# Altium integrated library TI Data Converters Digital to Analog Converter.IntLib: 1533 symbols (part 81 of 99)
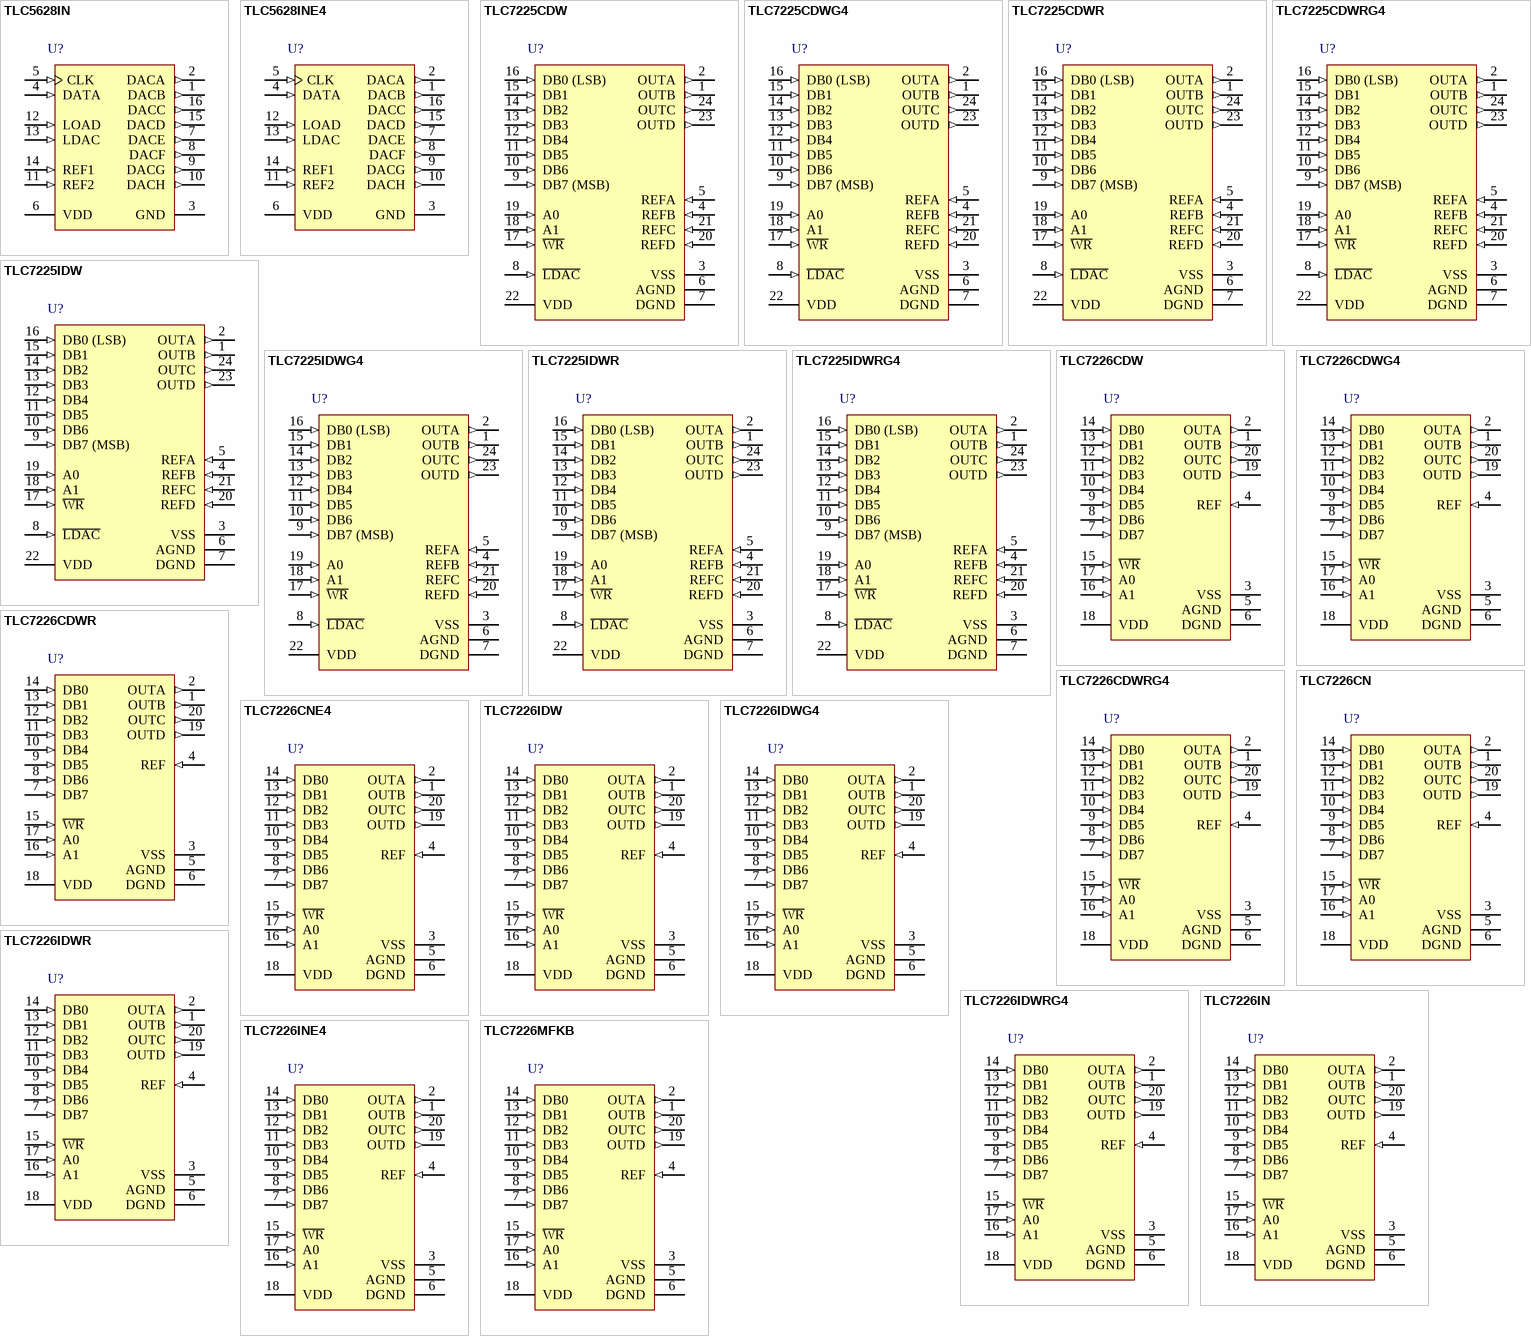
[diagram p153: symbols TLC5628IN to TLC7226MFKB]

## TLC7226MFKB
designator U?
8-Bit, 5 us Quad DAC, Parallel Input, Single / Dual Supply, -55 to 125 degC, 20-pin LCC (FK20); Manufacturer: Texas Instruments; PartNumber: TLC7226MFKB; DAC Channels: 4; DNL(Max)(+/-LSB): 1; Power Consumption(Typ)(mW): 90; Resolution(Bits): 8; Settling Time(us): 5; SubFamily: Precision DAC (=<10MSPS); DatasheetVersion: SLAS060F; PackageVersion: 4040140/D, 01/2011; PackageReference: FK20; PackageDescription: 20-Pin Ceramic, Metal Chip Carrier, Body 8.89 x 8.89 mm, Pitch 1.27 mm; INL(Max)(+/-LSB): 1; Interface: Parallel; Mounting Technology: Surface Mount; Code_JEDEC: MS-004; ComponentLink1Description: Manufacturer URL; ComponentLink1URL: http://www.ti.com/; ComponentLink2Description: Datasheet; ComponentLink2URL: http://www.ti.com/general/docs/lit/getliterature.tsp?genericPartNumber=TLC7226M&fileType=pdf; ComponentLink3Description: Package Specification; ComponentLink3URL: http://www.ti.com/litv/pdf/mlcc006d
footprint TI-FK20_N (Leadless Chip Carrier, 20-Leads, Body 8.9x8.9mm, Pitch 1.27mm, IPC Medium Density)
footprint TI-FK20_L (Leadless Chip Carrier, 20-Leads, Body 8.9x8.9mm, Pitch 1.27mm, IPC High Density)
footprint TI-FK20_M (Leadless Chip Carrier, 20-Leads, Body 8.9x8.9mm, Pitch 1.27mm, IPC Low Density)
pins: 1 OUTB (out) "DACB output. OUTB is the analog output of DACB.", 2 OUTA (out) "DACA output. OUTA is the analog output of DACA.", 3 VSS (power) "Negative supply voltage input terminal", 4 REF (in) "Voltage reference input. The voltage level on REF determines the full scale analog output.", 5 AGND (power) "Analog ground. AGND is the reference and return terminal for the analog signals and supply.", 6 DGND (power) "Digital ground. DGND is the reference and return terminal for the digital signals and supply.", 7 DB7 (in) "Digital DAC data inputs. DB0-DB7 are the input digital data used for conversion.", 8 DB6 (in) "Digital DAC data inputs. DB0-DB7 are the input digital data used for conversion.", 9 DB5 (in) "Digital DAC data inputs. DB0-DB7 are the input digital data used for conversion.", 10 DB4 (in) "Digital DAC data inputs. DB0-DB7 are the input digital data used for conversion.", 11 DB3 (in) "Digital DAC data inputs. DB0-DB7 are the input digital data used for conversion.", 12 DB2 (in) "Digital DAC data inputs. DB0-DB7 are the input digital data used for conversion.", 13 DB1 (in) "Digital DAC data inputs. DB0-DB7 are the input digital data used for conversion.", 14 DB0 (in) "Digital DAC data inputs. DB0-DB7 are the input digital data used for conversion.", 15 ~{WR} (in) "Write input. W\R\ selects DAC transparency or latch mode. The selected input latch is transparent when W\R\ is low.", 16 A1 (in) "DAC select inputs. The combination of high or low levels select either DACA, DACB, DACC, or DACD.", 17 A0 (in) "DAC select inputs. The combination of high or low levels select either DACA, DACB, DACC, or DACD.", 18 VDD (power) "Positive supply voltage input terminal", 19 OUTD (out) "DACD output. OUTD is the analog output of DACD.", 20 OUTC (out) "DACC output. OUTC is the analog output of DACC."

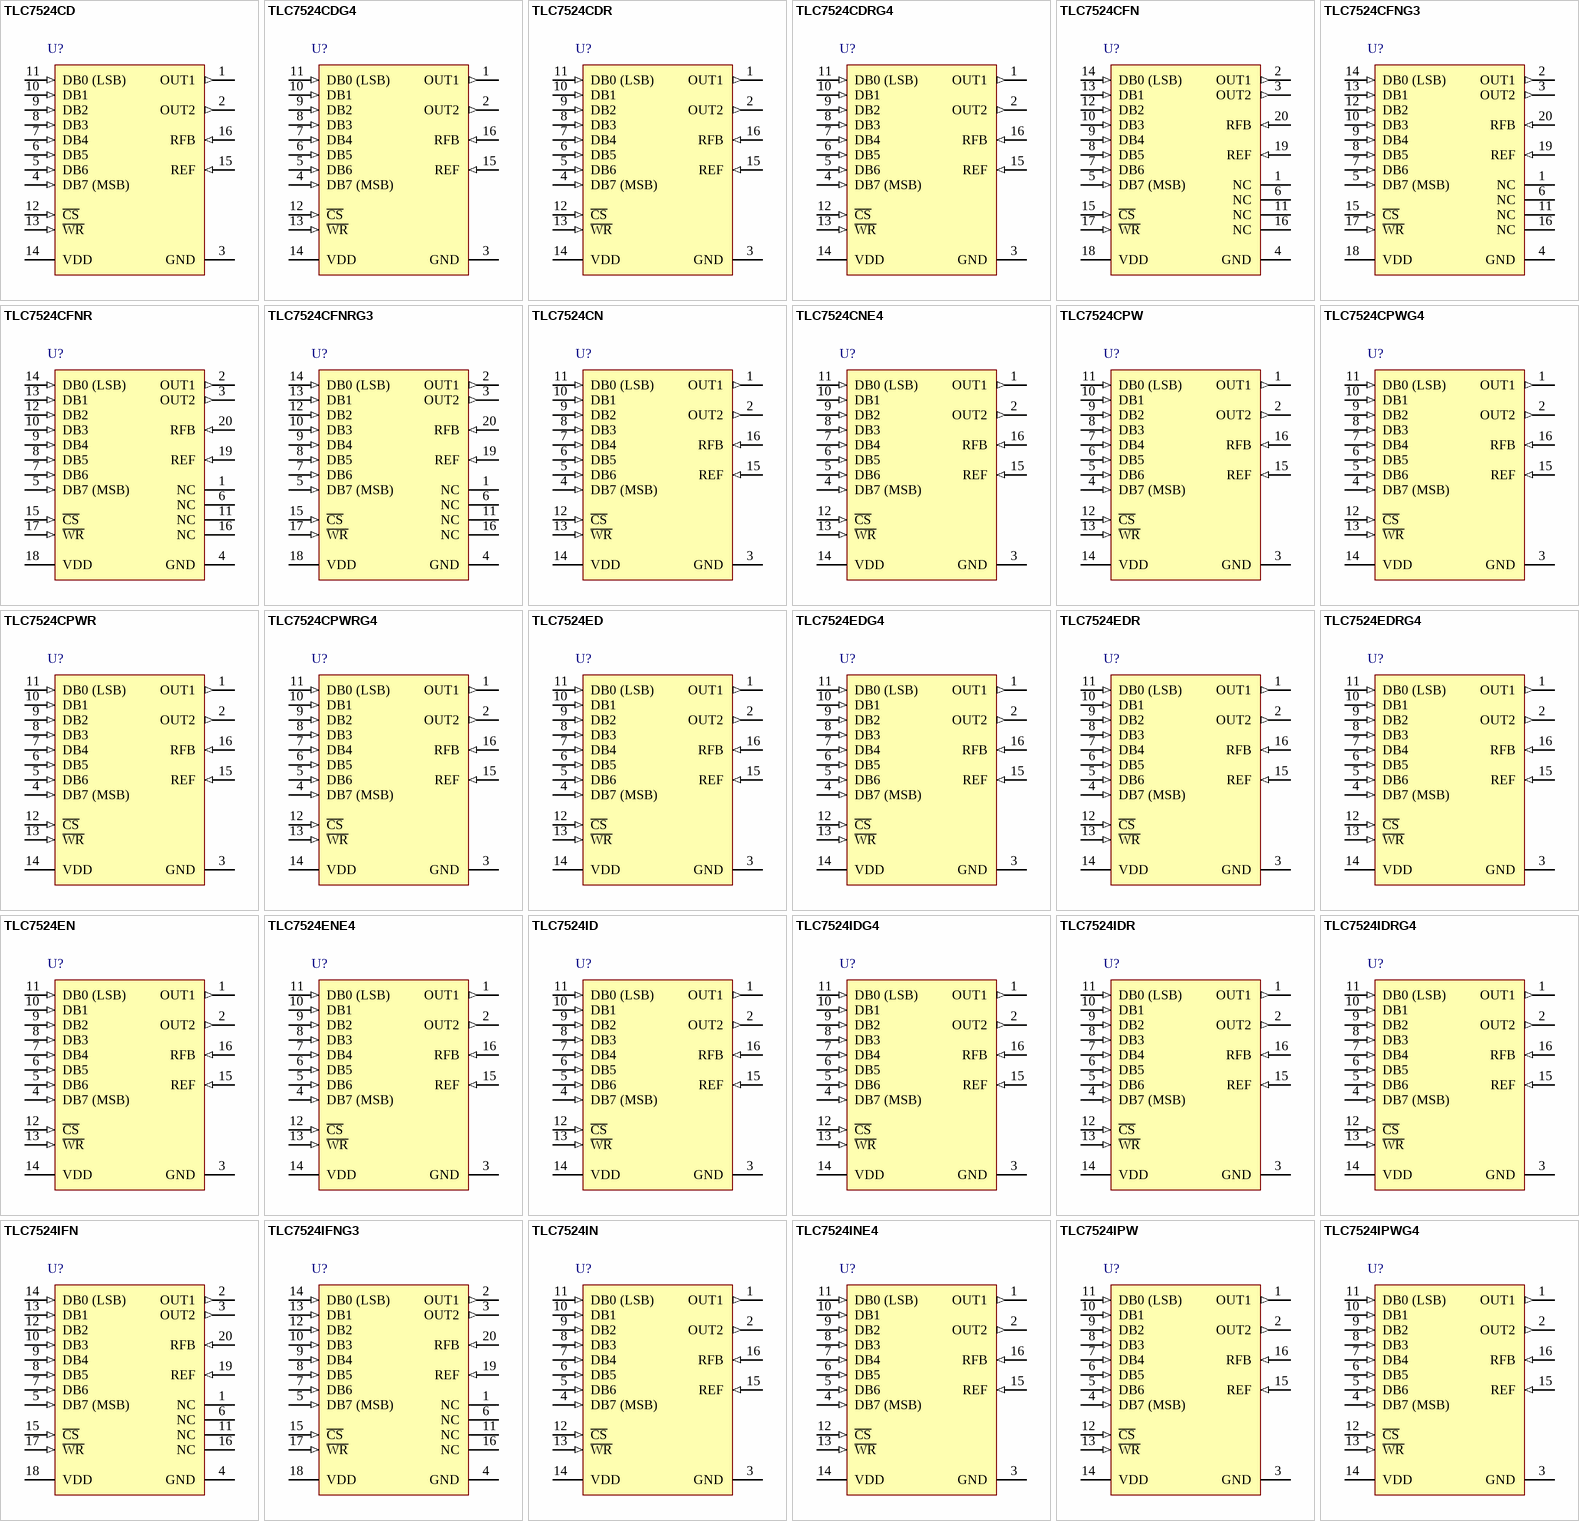
[diagram p60: symbols TLC7524CD to TLC7524IPWG4]

## TLC7524CD
designator U?
8-Bit, 0.1 us MDAC, Parallel Input, Fast Control Signalling for DSP, Easy Micro Interface, 0 to 70 degC, 16-pin SOIC (D16), Green (RoHS & no Sb/Br); Manufacturer: Texas Instruments; PartNumber: TLC7524CD; DAC Channels: 1; DNL(Max)(+/-LSB): 0.5; Resolution(Bits): 8; Settling Time(us): 0.1; SubFamily: Precision DAC (=<10MSPS); DatasheetVersion: SLAS061D; PackageVersion: 4040047-6/M, 06/2011; PackageReference: D16; PackageDescription: 16-Pin Plastic Small Outline, Body 9.9 x 3.9 mm, Pitch 1.27 mm; Supplier 1: Digi-Key; Supplier Part Number 1: 296-1866-5-ND; Supplier 2: Farnell; Supplier Part Number 2: 1102951; Supplier 3: Mouser; Supplier Part Number 3: 595-TLC7524CD; Eco-Plan: Green (RoHS & no Sb/Br); INL(Max)(+/-LSB): 0.5; Interface: Parallel; Mounting Technology: Surface Mount; Code_JEDEC: MS-012; ComponentLink1Description: Manufacturer URL; ComponentLink1URL: http://www.ti.com/; ComponentLink2Description: Datasheet; ComponentLink2URL: http://www.ti.com/general/docs/lit/getliterature.tsp?genericPartNumber=TLC7524&fileType=pdf; ComponentLink3Description: Package Specification; ComponentLink3URL: http://www.ti.com/litv/pdf/mpds178g
footprint TI-D16_N (SOIC, 16-Leads, Body 9.9x3.9mm, Pitch 1.27mm, IPC Medium Density)
footprint TI-D16_L (SOIC, 16-Leads, Body 9.9x3.9mm, Pitch 1.27mm, IPC High Density)
footprint TI-D16_M (SOIC, 16-Leads, Body 9.9x3.9mm, Pitch 1.27mm, IPC Low Density)
pins: 1 OUT1 (out), 2 OUT2 (out), 3 GND (power), 4 DB7 (MSB) (in), 5 DB6 (in), 6 DB5 (in), 7 DB4 (in), 8 DB3 (in), 9 DB2 (in), 10 DB1 (in), 11 DB0 (LSB) (in), 12 ~{CS} (in), 13 ~{WR} (in), 14 VDD (power), 15 REF (in), 16 RFB (in)

## TLC7524CDG4
designator U?
8-Bit, 0.1 us MDAC, Parallel Input, Fast Control Signalling for DSP, Easy Micro Interface, 0 to 70 degC, 16-pin SOIC (D16), Green (RoHS & no Sb/Br); Manufacturer: Texas Instruments; PartNumber: TLC7524CDG4; DAC Channels: 1; DNL(Max)(+/-LSB): 0.5; Resolution(Bits): 8; Settling Time(us): 0.1; SubFamily: Precision DAC (=<10MSPS); DatasheetVersion: SLAS061D; PackageVersion: 4040047-6/M, 06/2011; PackageReference: D16; PackageDescription: 16-Pin Plastic Small Outline, Body 9.9 x 3.9 mm, Pitch 1.27 mm; Supplier 1: Digi-Key; Supplier Part Number 1: TLC7524CDG4-ND; Supplier 2: Newark; Supplier Part Number 2: 10M0582; Supplier 3: Mouser; Supplier Part Number 3: 595-TLC7524CDG4; Eco-Plan: Green (RoHS & no Sb/Br); INL(Max)(+/-LSB): 0.5; Interface: Parallel; Mounting Technology: Surface Mount; Code_JEDEC: MS-012; ComponentLink1Description: Manufacturer URL; ComponentLink1URL: http://www.ti.com/; ComponentLink2Description: Datasheet; ComponentLink2URL: http://www.ti.com/general/docs/lit/getliterature.tsp?genericPartNumber=TLC7524&fileType=pdf; ComponentLink3Description: Package Specification; ComponentLink3URL: http://www.ti.com/litv/pdf/mpds178g
footprint TI-D16_N (SOIC, 16-Leads, Body 9.9x3.9mm, Pitch 1.27mm, IPC Medium Density)
footprint TI-D16_L (SOIC, 16-Leads, Body 9.9x3.9mm, Pitch 1.27mm, IPC High Density)
footprint TI-D16_M (SOIC, 16-Leads, Body 9.9x3.9mm, Pitch 1.27mm, IPC Low Density)
pins: 1 OUT1 (out), 2 OUT2 (out), 3 GND (power), 4 DB7 (MSB) (in), 5 DB6 (in), 6 DB5 (in), 7 DB4 (in), 8 DB3 (in), 9 DB2 (in), 10 DB1 (in), 11 DB0 (LSB) (in), 12 ~{CS} (in), 13 ~{WR} (in), 14 VDD (power), 15 REF (in), 16 RFB (in)

## TLC7524CDR
designator U?
8-Bit, 0.1 us MDAC, Parallel Input, Fast Control Signalling for DSP, Easy Micro Interface, 0 to 70 degC, 16-pin SOIC (D16), Green (RoHS & no Sb/Br); Manufacturer: Texas Instruments; PartNumber: TLC7524CDR; DAC Channels: 1; DNL(Max)(+/-LSB): 0.5; Resolution(Bits): 8; Settling Time(us): 0.1; SubFamily: Precision DAC (=<10MSPS); DatasheetVersion: SLAS061D; PackageVersion: 4040047-6/M, 06/2011; PackageReference: D16; PackageDescription: 16-Pin Plastic Small Outline, Body 9.9 x 3.9 mm, Pitch 1.27 mm; Supplier 1: Digi-Key; Supplier Part Number 1: TLC7524CDR-ND; Supplier 2: Newark; Supplier Part Number 2: 76C7493; Supplier 3: Mouser; Supplier Part Number 3: 595-TLC7524CDR; Eco-Plan: Green (RoHS & no Sb/Br); INL(Max)(+/-LSB): 0.5; Interface: Parallel; Mounting Technology: Surface Mount; Code_JEDEC: MS-012; ComponentLink1Description: Manufacturer URL; ComponentLink1URL: http://www.ti.com/; ComponentLink2Description: Datasheet; ComponentLink2URL: http://www.ti.com/general/docs/lit/getliterature.tsp?genericPartNumber=TLC7524&fileType=pdf; ComponentLink3Description: Package Specification; ComponentLink3URL: http://www.ti.com/litv/pdf/mpds178g
footprint TI-D16_N (SOIC, 16-Leads, Body 9.9x3.9mm, Pitch 1.27mm, IPC Medium Density)
footprint TI-D16_L (SOIC, 16-Leads, Body 9.9x3.9mm, Pitch 1.27mm, IPC High Density)
footprint TI-D16_M (SOIC, 16-Leads, Body 9.9x3.9mm, Pitch 1.27mm, IPC Low Density)
pins: 1 OUT1 (out), 2 OUT2 (out), 3 GND (power), 4 DB7 (MSB) (in), 5 DB6 (in), 6 DB5 (in), 7 DB4 (in), 8 DB3 (in), 9 DB2 (in), 10 DB1 (in), 11 DB0 (LSB) (in), 12 ~{CS} (in), 13 ~{WR} (in), 14 VDD (power), 15 REF (in), 16 RFB (in)

## TLC7524CDRG4
designator U?
8-Bit, 0.1 us MDAC, Parallel Input, Fast Control Signalling for DSP, Easy Micro Interface, 0 to 70 degC, 16-pin SOIC (D16), Green (RoHS & no Sb/Br); Manufacturer: Texas Instruments; PartNumber: TLC7524CDRG4; DAC Channels: 1; DNL(Max)(+/-LSB): 0.5; Resolution(Bits): 8; Settling Time(us): 0.1; SubFamily: Precision DAC (=<10MSPS); DatasheetVersion: SLAS061D; PackageVersion: 4040047-6/M, 06/2011; PackageReference: D16; PackageDescription: 16-Pin Plastic Small Outline, Body 9.9 x 3.9 mm, Pitch 1.27 mm; Supplier 1: Digi-Key; Supplier Part Number 1: TLC7524CDRG4-ND; Supplier 2: Newark; Supplier Part Number 2: 24K5348; Supplier 3: Mouser; Supplier Part Number 3: 595-TLC7524CDRG4; Eco-Plan: Green (RoHS & no Sb/Br); INL(Max)(+/-LSB): 0.5; Interface: Parallel; Mounting Technology: Surface Mount; Code_JEDEC: MS-012; ComponentLink1Description: Manufacturer URL; ComponentLink1URL: http://www.ti.com/; ComponentLink2Description: Datasheet; ComponentLink2URL: http://www.ti.com/general/docs/lit/getliterature.tsp?genericPartNumber=TLC7524&fileType=pdf; ComponentLink3Description: Package Specification; ComponentLink3URL: http://www.ti.com/litv/pdf/mpds178g
footprint TI-D16_N (SOIC, 16-Leads, Body 9.9x3.9mm, Pitch 1.27mm, IPC Medium Density)
footprint TI-D16_L (SOIC, 16-Leads, Body 9.9x3.9mm, Pitch 1.27mm, IPC High Density)
footprint TI-D16_M (SOIC, 16-Leads, Body 9.9x3.9mm, Pitch 1.27mm, IPC Low Density)
pins: 1 OUT1 (out), 2 OUT2 (out), 3 GND (power), 4 DB7 (MSB) (in), 5 DB6 (in), 6 DB5 (in), 7 DB4 (in), 8 DB3 (in), 9 DB2 (in), 10 DB1 (in), 11 DB0 (LSB) (in), 12 ~{CS} (in), 13 ~{WR} (in), 14 VDD (power), 15 REF (in), 16 RFB (in)

## TLC7524CFN
designator U?
8-Bit, 0.1 us MDAC, Parallel Input, Fast Control Signalling for DSP, Easy Micro Interface, 0 to 70 degC, 20-pin PLCC (FN20), Green (RoHS & no Sb/Br); Manufacturer: Texas Instruments; PartNumber: TLC7524CFN; DAC Channels: 1; DNL(Max)(+/-LSB): 0.5; Resolution(Bits): 8; Settling Time(us): 0.1; SubFamily: Precision DAC (=<10MSPS); DatasheetVersion: SLAS061D; PackageVersion: 4040005/B, 03/1995; PackageReference: FN20; PackageDescription: 20-Pin Plastic Chip Carrier, Body 8.965 x 8.965 mm, Pitch 1.27 mm; Supplier 1: Digi-Key; Supplier Part Number 1: 296-1867-5-ND; Supplier 2: Mouser; Supplier Part Number 2: 595-TLC7524CFN; Eco-Plan: Green (RoHS & no Sb/Br); INL(Max)(+/-LSB): 0.5; Interface: Parallel; Mounting Technology: Surface Mount; Code_JEDEC: MS-018; ComponentLink1Description: Manufacturer URL; ComponentLink1URL: http://www.ti.com/; ComponentLink2Description: Datasheet; ComponentLink2URL: http://www.ti.com/general/docs/lit/getliterature.tsp?genericPartNumber=TLC7524&fileType=pdf; ComponentLink3Description: Package Specification; ComponentLink3URL: http://www.ti.com/litv/pdf/mplc004a
footprint TI-FN20_N (PLCC, 20-Leads, Body 8.965x8.965mm, Pitch 1.27mm, IPC Medium Density)
footprint TI-FN20_L (PLCC, 20-Leads, Body 8.965x8.965mm, Pitch 1.27mm, IPC High Density)
footprint TI-FN20_M (PLCC, 20-Leads, Body 8.965x8.965mm, Pitch 1.27mm, IPC Low Density)
pins: 1 NC, 2 OUT1 (out), 3 OUT2 (out), 4 GND (power), 5 DB7 (MSB) (in), 6 NC, 7 DB6 (in), 8 DB5 (in), 9 DB4 (in), 10 DB3 (in), 11 NC, 12 DB2 (in), 13 DB1 (in), 14 DB0 (LSB) (in), 15 ~{CS} (in), 16 NC, 17 ~{WR} (in), 18 VDD (power), 19 REF (in), 20 RFB (in)

## TLC7524CFNG3
designator U?
8-Bit, 0.1 us MDAC, Parallel Input, Fast Control Signalling for DSP, Easy Micro Interface, 0 to 70 degC, 20-pin PLCC (FN20), Green (RoHS & no Sb/Br); Manufacturer: Texas Instruments; PartNumber: TLC7524CFNG3; DAC Channels: 1; DNL(Max)(+/-LSB): 0.5; Resolution(Bits): 8; Settling Time(us): 0.1; SubFamily: Precision DAC (=<10MSPS); DatasheetVersion: SLAS061D; PackageVersion: 4040005/B, 03/1995; PackageReference: FN20; PackageDescription: 20-Pin Plastic Chip Carrier, Body 8.965 x 8.965 mm, Pitch 1.27 mm; Supplier 1: Digi-Key; Supplier Part Number 1: TLC7524CFNG3-ND; Supplier 2: Mouser; Supplier Part Number 2: 595-TLC7524CFNG3; Eco-Plan: Green (RoHS & no Sb/Br); INL(Max)(+/-LSB): 0.5; Interface: Parallel; Mounting Technology: Surface Mount; Code_JEDEC: MS-018; ComponentLink1Description: Manufacturer URL; ComponentLink1URL: http://www.ti.com/; ComponentLink2Description: Datasheet; ComponentLink2URL: http://www.ti.com/general/docs/lit/getliterature.tsp?genericPartNumber=TLC7524&fileType=pdf; ComponentLink3Description: Package Specification; ComponentLink3URL: http://www.ti.com/litv/pdf/mplc004a
footprint TI-FN20_N (PLCC, 20-Leads, Body 8.965x8.965mm, Pitch 1.27mm, IPC Medium Density)
footprint TI-FN20_L (PLCC, 20-Leads, Body 8.965x8.965mm, Pitch 1.27mm, IPC High Density)
footprint TI-FN20_M (PLCC, 20-Leads, Body 8.965x8.965mm, Pitch 1.27mm, IPC Low Density)
pins: 1 NC, 2 OUT1 (out), 3 OUT2 (out), 4 GND (power), 5 DB7 (MSB) (in), 6 NC, 7 DB6 (in), 8 DB5 (in), 9 DB4 (in), 10 DB3 (in), 11 NC, 12 DB2 (in), 13 DB1 (in), 14 DB0 (LSB) (in), 15 ~{CS} (in), 16 NC, 17 ~{WR} (in), 18 VDD (power), 19 REF (in), 20 RFB (in)

## TLC7524CFNR
designator U?
8-Bit, 0.1 us MDAC, Parallel Input, Fast Control Signalling for DSP, Easy Micro Interface, 0 to 70 degC, 20-pin PLCC (FN20), Green (RoHS & no Sb/Br); Manufacturer: Texas Instruments; PartNumber: TLC7524CFNR; DAC Channels: 1; DNL(Max)(+/-LSB): 0.5; Resolution(Bits): 8; Settling Time(us): 0.1; SubFamily: Precision DAC (=<10MSPS); DatasheetVersion: SLAS061D; PackageVersion: 4040005/B, 03/1995; PackageReference: FN20; PackageDescription: 20-Pin Plastic Chip Carrier, Body 8.965 x 8.965 mm, Pitch 1.27 mm; Supplier 1: Digi-Key; Supplier Part Number 1: TLC7524CFNR-ND; Supplier 2: Newark; Supplier Part Number 2: 76C7495; Supplier 3: Mouser; Supplier Part Number 3: 595-TLC7524CFNR; Eco-Plan: Green (RoHS & no Sb/Br); INL(Max)(+/-LSB): 0.5; Interface: Parallel; Mounting Technology: Surface Mount; Code_JEDEC: MS-018; ComponentLink1Description: Manufacturer URL; ComponentLink1URL: http://www.ti.com/; ComponentLink2Description: Datasheet; ComponentLink2URL: http://www.ti.com/general/docs/lit/getliterature.tsp?genericPartNumber=TLC7524&fileType=pdf; ComponentLink3Description: Package Specification; ComponentLink3URL: http://www.ti.com/litv/pdf/mplc004a
footprint TI-FN20_N (PLCC, 20-Leads, Body 8.965x8.965mm, Pitch 1.27mm, IPC Medium Density)
footprint TI-FN20_L (PLCC, 20-Leads, Body 8.965x8.965mm, Pitch 1.27mm, IPC High Density)
footprint TI-FN20_M (PLCC, 20-Leads, Body 8.965x8.965mm, Pitch 1.27mm, IPC Low Density)
pins: 1 NC, 2 OUT1 (out), 3 OUT2 (out), 4 GND (power), 5 DB7 (MSB) (in), 6 NC, 7 DB6 (in), 8 DB5 (in), 9 DB4 (in), 10 DB3 (in), 11 NC, 12 DB2 (in), 13 DB1 (in), 14 DB0 (LSB) (in), 15 ~{CS} (in), 16 NC, 17 ~{WR} (in), 18 VDD (power), 19 REF (in), 20 RFB (in)

## TLC7524CFNRG3
designator U?
8-Bit, 0.1 us MDAC, Parallel Input, Fast Control Signalling for DSP, Easy Micro Interface, 0 to 70 degC, 20-pin PLCC (FN20), Green (RoHS & no Sb/Br); Manufacturer: Texas Instruments; PartNumber: TLC7524CFNRG3; DAC Channels: 1; DNL(Max)(+/-LSB): 0.5; Resolution(Bits): 8; Settling Time(us): 0.1; SubFamily: Precision DAC (=<10MSPS); DatasheetVersion: SLAS061D; PackageVersion: 4040005/B, 03/1995; PackageReference: FN20; PackageDescription: 20-Pin Plastic Chip Carrier, Body 8.965 x 8.965 mm, Pitch 1.27 mm; Supplier 1: Digi-Key; Supplier Part Number 1: TLC7524CFNRG3-ND; Supplier 2: Mouser; Supplier Part Number 2: 595-TLC7524CFNRG3; Eco-Plan: Green (RoHS & no Sb/Br); INL(Max)(+/-LSB): 0.5; Interface: Parallel; Mounting Technology: Surface Mount; Code_JEDEC: MS-018; ComponentLink1Description: Manufacturer URL; ComponentLink1URL: http://www.ti.com/; ComponentLink2Description: Datasheet; ComponentLink2URL: http://www.ti.com/general/docs/lit/getliterature.tsp?genericPartNumber=TLC7524&fileType=pdf; ComponentLink3Description: Package Specification; ComponentLink3URL: http://www.ti.com/litv/pdf/mplc004a
footprint TI-FN20_N (PLCC, 20-Leads, Body 8.965x8.965mm, Pitch 1.27mm, IPC Medium Density)
footprint TI-FN20_L (PLCC, 20-Leads, Body 8.965x8.965mm, Pitch 1.27mm, IPC High Density)
footprint TI-FN20_M (PLCC, 20-Leads, Body 8.965x8.965mm, Pitch 1.27mm, IPC Low Density)
pins: 1 NC, 2 OUT1 (out), 3 OUT2 (out), 4 GND (power), 5 DB7 (MSB) (in), 6 NC, 7 DB6 (in), 8 DB5 (in), 9 DB4 (in), 10 DB3 (in), 11 NC, 12 DB2 (in), 13 DB1 (in), 14 DB0 (LSB) (in), 15 ~{CS} (in), 16 NC, 17 ~{WR} (in), 18 VDD (power), 19 REF (in), 20 RFB (in)

## TLC7524CN
designator U?
8-Bit, 0.1 us MDAC, Parallel Input, Fast Control Signalling for DSP, Easy Micro Interface, 0 to 70 degC, 16-pin DIP (N16), Pb-Free (RoHS); Manufacturer: Texas Instruments; PartNumber: TLC7524CN; DAC Channels: 1; DNL(Max)(+/-LSB): 0.5; Resolution(Bits): 8; Settling Time(us): 0.1; SubFamily: Precision DAC (=<10MSPS); DatasheetVersion: SLAS061D; PackageVersion: 4040049/E, 12/2002; PackageReference: N16; PackageDescription: 16-Pin Plastic In-Line, Body 19.305 x 6.35 mm, Pitch 2.54 mm; Supplier 1: Digi-Key; Supplier Part Number 1: 296-1868-5-ND; Supplier 2: Farnell; Supplier Part Number 2: 1102997; Supplier 3: Mouser; Supplier Part Number 3: 595-TLC7524CN; Eco-Plan: Pb-Free (RoHS); INL(Max)(+/-LSB): 0.5; Interface: Parallel; Mounting Technology: Through Hole; Code_JEDEC: MS-001; ComponentLink1Description: Manufacturer URL; ComponentLink1URL: http://www.ti.com/; ComponentLink2Description: Datasheet; ComponentLink2URL: http://www.ti.com/general/docs/lit/getliterature.tsp?genericPartNumber=TLC7524&fileType=pdf; ComponentLink3Description: Package Specification; ComponentLink3URL: http://www.ti.com/litv/pdf/mpdi002c
footprint TI-N16 (DIP, 16-Leads, Body 19.305x6.35mm, Pitch 2.54mm)
pins: 1 OUT1 (out), 2 OUT2 (out), 3 GND (power), 4 DB7 (MSB) (in), 5 DB6 (in), 6 DB5 (in), 7 DB4 (in), 8 DB3 (in), 9 DB2 (in), 10 DB1 (in), 11 DB0 (LSB) (in), 12 ~{CS} (in), 13 ~{WR} (in), 14 VDD (power), 15 REF (in), 16 RFB (in)

## TLC7524CNE4
designator U?
8-Bit, 0.1 us MDAC, Parallel Input, Fast Control Signalling for DSP, Easy Micro Interface, 0 to 70 degC, 16-pin DIP (N16), Pb-Free (RoHS); Manufacturer: Texas Instruments; PartNumber: TLC7524CNE4; DAC Channels: 1; DNL(Max)(+/-LSB): 0.5; Resolution(Bits): 8; Settling Time(us): 0.1; SubFamily: Precision DAC (=<10MSPS); DatasheetVersion: SLAS061D; PackageVersion: 4040049/E, 12/2002; PackageReference: N16; PackageDescription: 16-Pin Plastic In-Line, Body 19.305 x 6.35 mm, Pitch 2.54 mm; Supplier 1: Digi-Key; Supplier Part Number 1: TLC7524CNE4-ND; Supplier 2: Mouser; Supplier Part Number 2: 595-TLC7524CNE4; Eco-Plan: Pb-Free (RoHS); INL(Max)(+/-LSB): 0.5; Interface: Parallel; Mounting Technology: Through Hole; Code_JEDEC: MS-001; ComponentLink1Description: Manufacturer URL; ComponentLink1URL: http://www.ti.com/; ComponentLink2Description: Datasheet; ComponentLink2URL: http://www.ti.com/general/docs/lit/getliterature.tsp?genericPartNumber=TLC7524&fileType=pdf; ComponentLink3Description: Package Specification; ComponentLink3URL: http://www.ti.com/litv/pdf/mpdi002c
footprint TI-N16 (DIP, 16-Leads, Body 19.305x6.35mm, Pitch 2.54mm)
pins: 1 OUT1 (out), 2 OUT2 (out), 3 GND (power), 4 DB7 (MSB) (in), 5 DB6 (in), 6 DB5 (in), 7 DB4 (in), 8 DB3 (in), 9 DB2 (in), 10 DB1 (in), 11 DB0 (LSB) (in), 12 ~{CS} (in), 13 ~{WR} (in), 14 VDD (power), 15 REF (in), 16 RFB (in)

## TLC7524CPW
designator U?
8-Bit, 0.1 us MDAC, Parallel Input, Fast Control Signalling for DSP, Easy Micro Interface, 0 to 70 degC, 16-pin SOP (PW16), Green (RoHS & no Sb/Br); Manufacturer: Texas Instruments; PartNumber: TLC7524CPW; DAC Channels: 1; DNL(Max)(+/-LSB): 0.5; Resolution(Bits): 8; Settling Time(us): 0.1; SubFamily: Precision DAC (=<10MSPS); DatasheetVersion: SLAS061D; PackageVersion: 4040064-4/G, 02/2011; PackageReference: PW16; PackageDescription: 16-Pin Plastic Small Outline, Body 5 x 4.4 mm, Pitch 0.65 mm; Supplier 1: Digi-Key; Supplier Part Number 1: 296-3020-5-ND; Supplier 2: Mouser; Supplier Part Number 2: 595-TLC7524CPW; Eco-Plan: Green (RoHS & no Sb/Br); INL(Max)(+/-LSB): 0.5; Interface: Parallel; Mounting Technology: Surface Mount; Code_JEDEC: MO-153; ComponentLink1Description: Manufacturer URL; ComponentLink1URL: http://www.ti.com/; ComponentLink2Description: Datasheet; ComponentLink2URL: http://www.ti.com/general/docs/lit/getliterature.tsp?genericPartNumber=TLC7524&fileType=pdf; ComponentLink3Description: Package Specification; ComponentLink3URL: http://www.ti.com/lit/ml/mpds361/mpds361.pdf
footprint TI-PW16_N (SOP, 16-Leads, Body 5x4.4mm, Pitch 0.65mm, IPC Medium Density)
footprint TI-PW16_L (SOP, 16-Leads, Body 5x4.4mm, Pitch 0.65mm, IPC High Density)
footprint TI-PW16_M (SOP, 16-Leads, Body 5x4.4mm, Pitch 0.65mm, IPC Low Density)
pins: 1 OUT1 (out), 2 OUT2 (out), 3 GND (power), 4 DB7 (MSB) (in), 5 DB6 (in), 6 DB5 (in), 7 DB4 (in), 8 DB3 (in), 9 DB2 (in), 10 DB1 (in), 11 DB0 (LSB) (in), 12 ~{CS} (in), 13 ~{WR} (in), 14 VDD (power), 15 REF (in), 16 RFB (in)

## TLC7524CPWG4
designator U?
8-Bit, 0.1 us MDAC, Parallel Input, Fast Control Signalling for DSP, Easy Micro Interface, 0 to 70 degC, 16-pin SOP (PW16), Green (RoHS & no Sb/Br); Manufacturer: Texas Instruments; PartNumber: TLC7524CPWG4; DAC Channels: 1; DNL(Max)(+/-LSB): 0.5; Resolution(Bits): 8; Settling Time(us): 0.1; SubFamily: Precision DAC (=<10MSPS); DatasheetVersion: SLAS061D; PackageVersion: 4040064-4/G, 02/2011; PackageReference: PW16; PackageDescription: 16-Pin Plastic Small Outline, Body 5 x 4.4 mm, Pitch 0.65 mm; Supplier 1: Digi-Key; Supplier Part Number 1: TLC7524CPWG4-ND; Supplier 2: Mouser; Supplier Part Number 2: 595-TLC7524CPWG4; Eco-Plan: Green (RoHS & no Sb/Br); INL(Max)(+/-LSB): 0.5; Interface: Parallel; Mounting Technology: Surface Mount; Code_JEDEC: MO-153; ComponentLink1Description: Manufacturer URL; ComponentLink1URL: http://www.ti.com/; ComponentLink2Description: Datasheet; ComponentLink2URL: http://www.ti.com/general/docs/lit/getliterature.tsp?genericPartNumber=TLC7524&fileType=pdf; ComponentLink3Description: Package Specification; ComponentLink3URL: http://www.ti.com/lit/ml/mpds361/mpds361.pdf
footprint TI-PW16_N (SOP, 16-Leads, Body 5x4.4mm, Pitch 0.65mm, IPC Medium Density)
footprint TI-PW16_L (SOP, 16-Leads, Body 5x4.4mm, Pitch 0.65mm, IPC High Density)
footprint TI-PW16_M (SOP, 16-Leads, Body 5x4.4mm, Pitch 0.65mm, IPC Low Density)
pins: 1 OUT1 (out), 2 OUT2 (out), 3 GND (power), 4 DB7 (MSB) (in), 5 DB6 (in), 6 DB5 (in), 7 DB4 (in), 8 DB3 (in), 9 DB2 (in), 10 DB1 (in), 11 DB0 (LSB) (in), 12 ~{CS} (in), 13 ~{WR} (in), 14 VDD (power), 15 REF (in), 16 RFB (in)

## TLC7524CPWR
designator U?
8-Bit, 0.1 us MDAC, Parallel Input, Fast Control Signalling for DSP, Easy Micro Interface, 0 to 70 degC, 16-pin SOP (PW16), Green (RoHS & no Sb/Br); Manufacturer: Texas Instruments; PartNumber: TLC7524CPWR; DAC Channels: 1; DNL(Max)(+/-LSB): 0.5; Resolution(Bits): 8; Settling Time(us): 0.1; SubFamily: Precision DAC (=<10MSPS); DatasheetVersion: SLAS061D; PackageVersion: 4040064-4/G, 02/2011; PackageReference: PW16; PackageDescription: 16-Pin Plastic Small Outline, Body 5 x 4.4 mm, Pitch 0.65 mm; Supplier 1: Digi-Key; Supplier Part Number 1: TLC7524CPWR-ND; Supplier 2: Mouser; Supplier Part Number 2: 595-TLC7524CPWR; Eco-Plan: Green (RoHS & no Sb/Br); INL(Max)(+/-LSB): 0.5; Interface: Parallel; Mounting Technology: Surface Mount; Code_JEDEC: MO-153; ComponentLink1Description: Manufacturer URL; ComponentLink1URL: http://www.ti.com/; ComponentLink2Description: Datasheet; ComponentLink2URL: http://www.ti.com/general/docs/lit/getliterature.tsp?genericPartNumber=TLC7524&fileType=pdf; ComponentLink3Description: Package Specification; ComponentLink3URL: http://www.ti.com/lit/ml/mpds361/mpds361.pdf
footprint TI-PW16_N (SOP, 16-Leads, Body 5x4.4mm, Pitch 0.65mm, IPC Medium Density)
footprint TI-PW16_L (SOP, 16-Leads, Body 5x4.4mm, Pitch 0.65mm, IPC High Density)
footprint TI-PW16_M (SOP, 16-Leads, Body 5x4.4mm, Pitch 0.65mm, IPC Low Density)
pins: 1 OUT1 (out), 2 OUT2 (out), 3 GND (power), 4 DB7 (MSB) (in), 5 DB6 (in), 6 DB5 (in), 7 DB4 (in), 8 DB3 (in), 9 DB2 (in), 10 DB1 (in), 11 DB0 (LSB) (in), 12 ~{CS} (in), 13 ~{WR} (in), 14 VDD (power), 15 REF (in), 16 RFB (in)

## TLC7524CPWRG4
designator U?
8-Bit, 0.1 us MDAC, Parallel Input, Fast Control Signalling for DSP, Easy Micro Interface, 0 to 70 degC, 16-pin SOP (PW16), Green (RoHS & no Sb/Br); Manufacturer: Texas Instruments; PartNumber: TLC7524CPWRG4; DAC Channels: 1; DNL(Max)(+/-LSB): 0.5; Resolution(Bits): 8; Settling Time(us): 0.1; SubFamily: Precision DAC (=<10MSPS); DatasheetVersion: SLAS061D; PackageVersion: 4040064-4/G, 02/2011; PackageReference: PW16; PackageDescription: 16-Pin Plastic Small Outline, Body 5 x 4.4 mm, Pitch 0.65 mm; Supplier 1: Digi-Key; Supplier Part Number 1: TLC7524CPWRG4-ND; Supplier 2: Mouser; Supplier Part Number 2: 595-TLC7524CPWRG4; Eco-Plan: Green (RoHS & no Sb/Br); INL(Max)(+/-LSB): 0.5; Interface: Parallel; Mounting Technology: Surface Mount; Code_JEDEC: MO-153; ComponentLink1Description: Manufacturer URL; ComponentLink1URL: http://www.ti.com/; ComponentLink2Description: Datasheet; ComponentLink2URL: http://www.ti.com/general/docs/lit/getliterature.tsp?genericPartNumber=TLC7524&fileType=pdf; ComponentLink3Description: Package Specification; ComponentLink3URL: http://www.ti.com/lit/ml/mpds361/mpds361.pdf
footprint TI-PW16_N (SOP, 16-Leads, Body 5x4.4mm, Pitch 0.65mm, IPC Medium Density)
footprint TI-PW16_L (SOP, 16-Leads, Body 5x4.4mm, Pitch 0.65mm, IPC High Density)
footprint TI-PW16_M (SOP, 16-Leads, Body 5x4.4mm, Pitch 0.65mm, IPC Low Density)
pins: 1 OUT1 (out), 2 OUT2 (out), 3 GND (power), 4 DB7 (MSB) (in), 5 DB6 (in), 6 DB5 (in), 7 DB4 (in), 8 DB3 (in), 9 DB2 (in), 10 DB1 (in), 11 DB0 (LSB) (in), 12 ~{CS} (in), 13 ~{WR} (in), 14 VDD (power), 15 REF (in), 16 RFB (in)

## TLC7524ED
designator U?
8-Bit, 0.1 us MDAC, Parallel Input, Fast Control Signalling for DSP, Easy Micro Interface, -40 to 85 degC, 16-pin SOIC (D16), Green (RoHS & no Sb/Br); Manufacturer: Texas Instruments; PartNumber: TLC7524ED; DAC Channels: 1; DNL(Max)(+/-LSB): 0.5; Resolution(Bits): 8; Settling Time(us): 0.1; SubFamily: Precision DAC (=<10MSPS); DatasheetVersion: SLAS061D; PackageVersion: 4040047-6/M, 06/2011; PackageReference: D16; PackageDescription: 16-Pin Plastic Small Outline, Body 9.9 x 3.9 mm, Pitch 1.27 mm; Supplier 1: Digi-Key; Supplier Part Number 1: 296-26763-5-ND; Supplier 2: Newark; Supplier Part Number 2: 92B9679; Supplier 3: Mouser; Supplier Part Number 3: 595-TLC7524ED; Eco-Plan: Green (RoHS & no Sb/Br); INL(Max)(+/-LSB): 0.5; Interface: Parallel; Mounting Technology: Surface Mount; Code_JEDEC: MS-012; ComponentLink1Description: Manufacturer URL; ComponentLink1URL: http://www.ti.com/; ComponentLink2Description: Datasheet; ComponentLink2URL: http://www.ti.com/general/docs/lit/getliterature.tsp?genericPartNumber=TLC7524&fileType=pdf; ComponentLink3Description: Package Specification; ComponentLink3URL: http://www.ti.com/litv/pdf/mpds178g
footprint TI-D16_N (SOIC, 16-Leads, Body 9.9x3.9mm, Pitch 1.27mm, IPC Medium Density)
footprint TI-D16_L (SOIC, 16-Leads, Body 9.9x3.9mm, Pitch 1.27mm, IPC High Density)
footprint TI-D16_M (SOIC, 16-Leads, Body 9.9x3.9mm, Pitch 1.27mm, IPC Low Density)
pins: 1 OUT1 (out), 2 OUT2 (out), 3 GND (power), 4 DB7 (MSB) (in), 5 DB6 (in), 6 DB5 (in), 7 DB4 (in), 8 DB3 (in), 9 DB2 (in), 10 DB1 (in), 11 DB0 (LSB) (in), 12 ~{CS} (in), 13 ~{WR} (in), 14 VDD (power), 15 REF (in), 16 RFB (in)

## TLC7524EDG4
designator U?
8-Bit, 0.1 us MDAC, Parallel Input, Fast Control Signalling for DSP, Easy Micro Interface, -40 to 85 degC, 16-pin SOIC (D16), Green (RoHS & no Sb/Br); Manufacturer: Texas Instruments; PartNumber: TLC7524EDG4; DAC Channels: 1; DNL(Max)(+/-LSB): 0.5; Resolution(Bits): 8; Settling Time(us): 0.1; SubFamily: Precision DAC (=<10MSPS); DatasheetVersion: SLAS061D; PackageVersion: 4040047-6/M, 06/2011; PackageReference: D16; PackageDescription: 16-Pin Plastic Small Outline, Body 9.9 x 3.9 mm, Pitch 1.27 mm; Supplier 1: Digi-Key; Supplier Part Number 1: TLC7524EDG4-ND; Supplier 2: Newark; Supplier Part Number 2: 67K8508; Supplier 3: Mouser; Supplier Part Number 3: 595-TLC7524EDG4; Eco-Plan: Green (RoHS & no Sb/Br); INL(Max)(+/-LSB): 0.5; Interface: Parallel; Mounting Technology: Surface Mount; Code_JEDEC: MS-012; ComponentLink1Description: Manufacturer URL; ComponentLink1URL: http://www.ti.com/; ComponentLink2Description: Datasheet; ComponentLink2URL: http://www.ti.com/general/docs/lit/getliterature.tsp?genericPartNumber=TLC7524&fileType=pdf; ComponentLink3Description: Package Specification; ComponentLink3URL: http://www.ti.com/litv/pdf/mpds178g
footprint TI-D16_N (SOIC, 16-Leads, Body 9.9x3.9mm, Pitch 1.27mm, IPC Medium Density)
footprint TI-D16_L (SOIC, 16-Leads, Body 9.9x3.9mm, Pitch 1.27mm, IPC High Density)
footprint TI-D16_M (SOIC, 16-Leads, Body 9.9x3.9mm, Pitch 1.27mm, IPC Low Density)
pins: 1 OUT1 (out), 2 OUT2 (out), 3 GND (power), 4 DB7 (MSB) (in), 5 DB6 (in), 6 DB5 (in), 7 DB4 (in), 8 DB3 (in), 9 DB2 (in), 10 DB1 (in), 11 DB0 (LSB) (in), 12 ~{CS} (in), 13 ~{WR} (in), 14 VDD (power), 15 REF (in), 16 RFB (in)

## TLC7524EDR
designator U?
8-Bit, 0.1 us MDAC, Parallel Input, Fast Control Signalling for DSP, Easy Micro Interface, -40 to 85 degC, 16-pin SOIC (D16), Green (RoHS & no Sb/Br); Manufacturer: Texas Instruments; PartNumber: TLC7524EDR; DAC Channels: 1; DNL(Max)(+/-LSB): 0.5; Resolution(Bits): 8; Settling Time(us): 0.1; SubFamily: Precision DAC (=<10MSPS); DatasheetVersion: SLAS061D; PackageVersion: 4040047-6/M, 06/2011; PackageReference: D16; PackageDescription: 16-Pin Plastic Small Outline, Body 9.9 x 3.9 mm, Pitch 1.27 mm; Supplier 1: Digi-Key; Supplier Part Number 1: TLC7524EDR-ND; Supplier 2: Newark; Supplier Part Number 2: 76C7498; Supplier 3: Mouser; Supplier Part Number 3: 595-TLC7524EDR; Eco-Plan: Green (RoHS & no Sb/Br); INL(Max)(+/-LSB): 0.5; Interface: Parallel; Mounting Technology: Surface Mount; Code_JEDEC: MS-012; ComponentLink1Description: Manufacturer URL; ComponentLink1URL: http://www.ti.com/; ComponentLink2Description: Datasheet; ComponentLink2URL: http://www.ti.com/general/docs/lit/getliterature.tsp?genericPartNumber=TLC7524&fileType=pdf; ComponentLink3Description: Package Specification; ComponentLink3URL: http://www.ti.com/litv/pdf/mpds178g
footprint TI-D16_N (SOIC, 16-Leads, Body 9.9x3.9mm, Pitch 1.27mm, IPC Medium Density)
footprint TI-D16_L (SOIC, 16-Leads, Body 9.9x3.9mm, Pitch 1.27mm, IPC High Density)
footprint TI-D16_M (SOIC, 16-Leads, Body 9.9x3.9mm, Pitch 1.27mm, IPC Low Density)
pins: 1 OUT1 (out), 2 OUT2 (out), 3 GND (power), 4 DB7 (MSB) (in), 5 DB6 (in), 6 DB5 (in), 7 DB4 (in), 8 DB3 (in), 9 DB2 (in), 10 DB1 (in), 11 DB0 (LSB) (in), 12 ~{CS} (in), 13 ~{WR} (in), 14 VDD (power), 15 REF (in), 16 RFB (in)

## TLC7524EDRG4
designator U?
8-Bit, 0.1 us MDAC, Parallel Input, Fast Control Signalling for DSP, Easy Micro Interface, -40 to 85 degC, 16-pin SOIC (D16), Green (RoHS & no Sb/Br); Manufacturer: Texas Instruments; PartNumber: TLC7524EDRG4; DAC Channels: 1; DNL(Max)(+/-LSB): 0.5; Resolution(Bits): 8; Settling Time(us): 0.1; SubFamily: Precision DAC (=<10MSPS); DatasheetVersion: SLAS061D; PackageVersion: 4040047-6/M, 06/2011; PackageReference: D16; PackageDescription: 16-Pin Plastic Small Outline, Body 9.9 x 3.9 mm, Pitch 1.27 mm; Supplier 1: Digi-Key; Supplier Part Number 1: TLC7524EDRG4-ND; Supplier 2: Mouser; Supplier Part Number 2: 595-TLC7524EDRG4; Eco-Plan: Green (RoHS & no Sb/Br); INL(Max)(+/-LSB): 0.5; Interface: Parallel; Mounting Technology: Surface Mount; Code_JEDEC: MS-012; ComponentLink1Description: Manufacturer URL; ComponentLink1URL: http://www.ti.com/; ComponentLink2Description: Datasheet; ComponentLink2URL: http://www.ti.com/general/docs/lit/getliterature.tsp?genericPartNumber=TLC7524&fileType=pdf; ComponentLink3Description: Package Specification; ComponentLink3URL: http://www.ti.com/litv/pdf/mpds178g
footprint TI-D16_N (SOIC, 16-Leads, Body 9.9x3.9mm, Pitch 1.27mm, IPC Medium Density)
footprint TI-D16_L (SOIC, 16-Leads, Body 9.9x3.9mm, Pitch 1.27mm, IPC High Density)
footprint TI-D16_M (SOIC, 16-Leads, Body 9.9x3.9mm, Pitch 1.27mm, IPC Low Density)
pins: 1 OUT1 (out), 2 OUT2 (out), 3 GND (power), 4 DB7 (MSB) (in), 5 DB6 (in), 6 DB5 (in), 7 DB4 (in), 8 DB3 (in), 9 DB2 (in), 10 DB1 (in), 11 DB0 (LSB) (in), 12 ~{CS} (in), 13 ~{WR} (in), 14 VDD (power), 15 REF (in), 16 RFB (in)

## TLC7524EN
designator U?
8-Bit, 0.1 us MDAC, Parallel Input, Fast Control Signalling for DSP, Easy Micro Interface, -40 to 85 degC, 16-pin DIP (N16), Pb-Free (RoHS); Manufacturer: Texas Instruments; PartNumber: TLC7524EN; DAC Channels: 1; DNL(Max)(+/-LSB): 0.5; Resolution(Bits): 8; Settling Time(us): 0.1; SubFamily: Precision DAC (=<10MSPS); DatasheetVersion: SLAS061D; PackageVersion: 4040049/E, 12/2002; PackageReference: N16; PackageDescription: 16-Pin Plastic In-Line, Body 19.305 x 6.35 mm, Pitch 2.54 mm; Supplier 1: Digi-Key; Supplier Part Number 1: 296-1869-5-ND; Supplier 2: Mouser; Supplier Part Number 2: 595-TLC7524EN; Eco-Plan: Pb-Free (RoHS); INL(Max)(+/-LSB): 0.5; Interface: Parallel; Mounting Technology: Through Hole; Code_JEDEC: MS-001; ComponentLink1Description: Manufacturer URL; ComponentLink1URL: http://www.ti.com/; ComponentLink2Description: Datasheet; ComponentLink2URL: http://www.ti.com/general/docs/lit/getliterature.tsp?genericPartNumber=TLC7524&fileType=pdf; ComponentLink3Description: Package Specification; ComponentLink3URL: http://www.ti.com/litv/pdf/mpdi002c
footprint TI-N16 (DIP, 16-Leads, Body 19.305x6.35mm, Pitch 2.54mm)
pins: 1 OUT1 (out), 2 OUT2 (out), 3 GND (power), 4 DB7 (MSB) (in), 5 DB6 (in), 6 DB5 (in), 7 DB4 (in), 8 DB3 (in), 9 DB2 (in), 10 DB1 (in), 11 DB0 (LSB) (in), 12 ~{CS} (in), 13 ~{WR} (in), 14 VDD (power), 15 REF (in), 16 RFB (in)

## TLC7524ENE4
designator U?
8-Bit, 0.1 us MDAC, Parallel Input, Fast Control Signalling for DSP, Easy Micro Interface, -40 to 85 degC, 16-pin DIP (N16), Pb-Free (RoHS); Manufacturer: Texas Instruments; PartNumber: TLC7524ENE4; DAC Channels: 1; DNL(Max)(+/-LSB): 0.5; Resolution(Bits): 8; Settling Time(us): 0.1; SubFamily: Precision DAC (=<10MSPS); DatasheetVersion: SLAS061D; PackageVersion: 4040049/E, 12/2002; PackageReference: N16; PackageDescription: 16-Pin Plastic In-Line, Body 19.305 x 6.35 mm, Pitch 2.54 mm; Supplier 1: Digi-Key; Supplier Part Number 1: TLC7524ENE4-ND; Supplier 2: Mouser; Supplier Part Number 2: 595-TLC7524ENE4; Eco-Plan: Pb-Free (RoHS); INL(Max)(+/-LSB): 0.5; Interface: Parallel; Mounting Technology: Through Hole; Code_JEDEC: MS-001; ComponentLink1Description: Manufacturer URL; ComponentLink1URL: http://www.ti.com/; ComponentLink2Description: Datasheet; ComponentLink2URL: http://www.ti.com/general/docs/lit/getliterature.tsp?genericPartNumber=TLC7524&fileType=pdf; ComponentLink3Description: Package Specification; ComponentLink3URL: http://www.ti.com/litv/pdf/mpdi002c
footprint TI-N16 (DIP, 16-Leads, Body 19.305x6.35mm, Pitch 2.54mm)
pins: 1 OUT1 (out), 2 OUT2 (out), 3 GND (power), 4 DB7 (MSB) (in), 5 DB6 (in), 6 DB5 (in), 7 DB4 (in), 8 DB3 (in), 9 DB2 (in), 10 DB1 (in), 11 DB0 (LSB) (in), 12 ~{CS} (in), 13 ~{WR} (in), 14 VDD (power), 15 REF (in), 16 RFB (in)

## TLC7524ID
designator U?
8-Bit, 0.1 us MDAC, Parallel Input, Fast Control Signalling for DSP, Easy Micro Interface, -25 to 85 degC, 16-pin SOIC (D16), Green (RoHS & no Sb/Br); Manufacturer: Texas Instruments; PartNumber: TLC7524ID; DAC Channels: 1; DNL(Max)(+/-LSB): 0.5; Resolution(Bits): 8; Settling Time(us): 0.1; SubFamily: Precision DAC (=<10MSPS); DatasheetVersion: SLAS061D; PackageVersion: 4040047-6/M, 06/2011; PackageReference: D16; PackageDescription: 16-Pin Plastic Small Outline, Body 9.9 x 3.9 mm, Pitch 1.27 mm; Supplier 1: Digi-Key; Supplier Part Number 1: 296-3021-5-ND; Supplier 2: Newark; Supplier Part Number 2: 76C7499; Supplier 3: Mouser; Supplier Part Number 3: 595-TLC7524ID; Eco-Plan: Green (RoHS & no Sb/Br); INL(Max)(+/-LSB): 0.5; Interface: Parallel; Mounting Technology: Surface Mount; Code_JEDEC: MS-012; ComponentLink1Description: Manufacturer URL; ComponentLink1URL: http://www.ti.com/; ComponentLink2Description: Datasheet; ComponentLink2URL: http://www.ti.com/general/docs/lit/getliterature.tsp?genericPartNumber=TLC7524&fileType=pdf; ComponentLink3Description: Package Specification; ComponentLink3URL: http://www.ti.com/litv/pdf/mpds178g
footprint TI-D16_N (SOIC, 16-Leads, Body 9.9x3.9mm, Pitch 1.27mm, IPC Medium Density)
footprint TI-D16_L (SOIC, 16-Leads, Body 9.9x3.9mm, Pitch 1.27mm, IPC High Density)
footprint TI-D16_M (SOIC, 16-Leads, Body 9.9x3.9mm, Pitch 1.27mm, IPC Low Density)
pins: 1 OUT1 (out), 2 OUT2 (out), 3 GND (power), 4 DB7 (MSB) (in), 5 DB6 (in), 6 DB5 (in), 7 DB4 (in), 8 DB3 (in), 9 DB2 (in), 10 DB1 (in), 11 DB0 (LSB) (in), 12 ~{CS} (in), 13 ~{WR} (in), 14 VDD (power), 15 REF (in), 16 RFB (in)

## TLC7524IDG4
designator U?
8-Bit, 0.1 us MDAC, Parallel Input, Fast Control Signalling for DSP, Easy Micro Interface, -25 to 85 degC, 16-pin SOIC (D16), Green (RoHS & no Sb/Br); Manufacturer: Texas Instruments; PartNumber: TLC7524IDG4; DAC Channels: 1; DNL(Max)(+/-LSB): 0.5; Resolution(Bits): 8; Settling Time(us): 0.1; SubFamily: Precision DAC (=<10MSPS); DatasheetVersion: SLAS061D; PackageVersion: 4040047-6/M, 06/2011; PackageReference: D16; PackageDescription: 16-Pin Plastic Small Outline, Body 9.9 x 3.9 mm, Pitch 1.27 mm; Supplier 1: Digi-Key; Supplier Part Number 1: TLC7524IDG4-ND; Supplier 2: Farnell; Supplier Part Number 2: 1234879; Supplier 3: Newark; Supplier Part Number 3: 13M3152; Supplier 4: Newark; Supplier Part Number 4: 67K8509; Supplier 5: Mouser; Supplier Part Number 5: 595-TLC7524IDG4; Eco-Plan: Green (RoHS & no Sb/Br); INL(Max)(+/-LSB): 0.5; Interface: Parallel; Mounting Technology: Surface Mount; Code_JEDEC: MS-012; ComponentLink1Description: Manufacturer URL; ComponentLink1URL: http://www.ti.com/; ComponentLink2Description: Datasheet; ComponentLink2URL: http://www.ti.com/general/docs/lit/getliterature.tsp?genericPartNumber=TLC7524&fileType=pdf; ComponentLink3Description: Package Specification; ComponentLink3URL: http://www.ti.com/litv/pdf/mpds178g
footprint TI-D16_N (SOIC, 16-Leads, Body 9.9x3.9mm, Pitch 1.27mm, IPC Medium Density)
footprint TI-D16_L (SOIC, 16-Leads, Body 9.9x3.9mm, Pitch 1.27mm, IPC High Density)
footprint TI-D16_M (SOIC, 16-Leads, Body 9.9x3.9mm, Pitch 1.27mm, IPC Low Density)
pins: 1 OUT1 (out), 2 OUT2 (out), 3 GND (power), 4 DB7 (MSB) (in), 5 DB6 (in), 6 DB5 (in), 7 DB4 (in), 8 DB3 (in), 9 DB2 (in), 10 DB1 (in), 11 DB0 (LSB) (in), 12 ~{CS} (in), 13 ~{WR} (in), 14 VDD (power), 15 REF (in), 16 RFB (in)

## TLC7524IDR
designator U?
8-Bit, 0.1 us MDAC, Parallel Input, Fast Control Signalling for DSP, Easy Micro Interface, -25 to 85 degC, 16-pin SOIC (D16), Green (RoHS & no Sb/Br); Manufacturer: Texas Instruments; PartNumber: TLC7524IDR; DAC Channels: 1; DNL(Max)(+/-LSB): 0.5; Resolution(Bits): 8; Settling Time(us): 0.1; SubFamily: Precision DAC (=<10MSPS); DatasheetVersion: SLAS061D; PackageVersion: 4040047-6/M, 06/2011; PackageReference: D16; PackageDescription: 16-Pin Plastic Small Outline, Body 9.9 x 3.9 mm, Pitch 1.27 mm; Supplier 1: Digi-Key; Supplier Part Number 1: TLC7524IDR-ND; Supplier 2: Mouser; Supplier Part Number 2: 595-TLC7524IDR; Eco-Plan: Green (RoHS & no Sb/Br); INL(Max)(+/-LSB): 0.5; Interface: Parallel; Mounting Technology: Surface Mount; Code_JEDEC: MS-012; ComponentLink1Description: Manufacturer URL; ComponentLink1URL: http://www.ti.com/; ComponentLink2Description: Datasheet; ComponentLink2URL: http://www.ti.com/general/docs/lit/getliterature.tsp?genericPartNumber=TLC7524&fileType=pdf; ComponentLink3Description: Package Specification; ComponentLink3URL: http://www.ti.com/litv/pdf/mpds178g
footprint TI-D16_N (SOIC, 16-Leads, Body 9.9x3.9mm, Pitch 1.27mm, IPC Medium Density)
footprint TI-D16_L (SOIC, 16-Leads, Body 9.9x3.9mm, Pitch 1.27mm, IPC High Density)
footprint TI-D16_M (SOIC, 16-Leads, Body 9.9x3.9mm, Pitch 1.27mm, IPC Low Density)
pins: 1 OUT1 (out), 2 OUT2 (out), 3 GND (power), 4 DB7 (MSB) (in), 5 DB6 (in), 6 DB5 (in), 7 DB4 (in), 8 DB3 (in), 9 DB2 (in), 10 DB1 (in), 11 DB0 (LSB) (in), 12 ~{CS} (in), 13 ~{WR} (in), 14 VDD (power), 15 REF (in), 16 RFB (in)

## TLC7524IDRG4
designator U?
8-Bit, 0.1 us MDAC, Parallel Input, Fast Control Signalling for DSP, Easy Micro Interface, -25 to 85 degC, 16-pin SOIC (D16), Green (RoHS & no Sb/Br); Manufacturer: Texas Instruments; PartNumber: TLC7524IDRG4; DAC Channels: 1; DNL(Max)(+/-LSB): 0.5; Resolution(Bits): 8; Settling Time(us): 0.1; SubFamily: Precision DAC (=<10MSPS); DatasheetVersion: SLAS061D; PackageVersion: 4040047-6/M, 06/2011; PackageReference: D16; PackageDescription: 16-Pin Plastic Small Outline, Body 9.9 x 3.9 mm, Pitch 1.27 mm; Supplier 1: Digi-Key; Supplier Part Number 1: TLC7524IDRG4-ND; Supplier 2: Mouser; Supplier Part Number 2: 595-TLC7524IDRG4; Eco-Plan: Green (RoHS & no Sb/Br); INL(Max)(+/-LSB): 0.5; Interface: Parallel; Mounting Technology: Surface Mount; Code_JEDEC: MS-012; ComponentLink1Description: Manufacturer URL; ComponentLink1URL: http://www.ti.com/; ComponentLink2Description: Datasheet; ComponentLink2URL: http://www.ti.com/general/docs/lit/getliterature.tsp?genericPartNumber=TLC7524&fileType=pdf; ComponentLink3Description: Package Specification; ComponentLink3URL: http://www.ti.com/litv/pdf/mpds178g
footprint TI-D16_N (SOIC, 16-Leads, Body 9.9x3.9mm, Pitch 1.27mm, IPC Medium Density)
footprint TI-D16_L (SOIC, 16-Leads, Body 9.9x3.9mm, Pitch 1.27mm, IPC High Density)
footprint TI-D16_M (SOIC, 16-Leads, Body 9.9x3.9mm, Pitch 1.27mm, IPC Low Density)
pins: 1 OUT1 (out), 2 OUT2 (out), 3 GND (power), 4 DB7 (MSB) (in), 5 DB6 (in), 6 DB5 (in), 7 DB4 (in), 8 DB3 (in), 9 DB2 (in), 10 DB1 (in), 11 DB0 (LSB) (in), 12 ~{CS} (in), 13 ~{WR} (in), 14 VDD (power), 15 REF (in), 16 RFB (in)

## TLC7524IFN
designator U?
8-Bit, 0.1 us MDAC, Parallel Input, Fast Control Signalling for DSP, Easy Micro Interface, -25 to 85 degC, 20-pin PLCC (FN20), Green (RoHS & no Sb/Br); Manufacturer: Texas Instruments; PartNumber: TLC7524IFN; DAC Channels: 1; DNL(Max)(+/-LSB): 0.5; Resolution(Bits): 8; Settling Time(us): 0.1; SubFamily: Precision DAC (=<10MSPS); DatasheetVersion: SLAS061D; PackageVersion: 4040005/B, 03/1995; PackageReference: FN20; PackageDescription: 20-Pin Plastic Chip Carrier, Body 8.965 x 8.965 mm, Pitch 1.27 mm; Supplier 1: Digi-Key; Supplier Part Number 1: 296-3022-5-ND; Supplier 2: Mouser; Supplier Part Number 2: 595-TLC7524IFN; Eco-Plan: Green (RoHS & no Sb/Br); INL(Max)(+/-LSB): 0.5; Interface: Parallel; Mounting Technology: Surface Mount; Code_JEDEC: MS-018; ComponentLink1Description: Manufacturer URL; ComponentLink1URL: http://www.ti.com/; ComponentLink2Description: Datasheet; ComponentLink2URL: http://www.ti.com/general/docs/lit/getliterature.tsp?genericPartNumber=TLC7524&fileType=pdf; ComponentLink3Description: Package Specification; ComponentLink3URL: http://www.ti.com/litv/pdf/mplc004a
footprint TI-FN20_N (PLCC, 20-Leads, Body 8.965x8.965mm, Pitch 1.27mm, IPC Medium Density)
footprint TI-FN20_L (PLCC, 20-Leads, Body 8.965x8.965mm, Pitch 1.27mm, IPC High Density)
footprint TI-FN20_M (PLCC, 20-Leads, Body 8.965x8.965mm, Pitch 1.27mm, IPC Low Density)
pins: 1 NC, 2 OUT1 (out), 3 OUT2 (out), 4 GND (power), 5 DB7 (MSB) (in), 6 NC, 7 DB6 (in), 8 DB5 (in), 9 DB4 (in), 10 DB3 (in), 11 NC, 12 DB2 (in), 13 DB1 (in), 14 DB0 (LSB) (in), 15 ~{CS} (in), 16 NC, 17 ~{WR} (in), 18 VDD (power), 19 REF (in), 20 RFB (in)

## TLC7524IFNG3
designator U?
8-Bit, 0.1 us MDAC, Parallel Input, Fast Control Signalling for DSP, Easy Micro Interface, -25 to 85 degC, 20-pin PLCC (FN20), Green (RoHS & no Sb/Br); Manufacturer: Texas Instruments; PartNumber: TLC7524IFNG3; DAC Channels: 1; DNL(Max)(+/-LSB): 0.5; Resolution(Bits): 8; Settling Time(us): 0.1; SubFamily: Precision DAC (=<10MSPS); DatasheetVersion: SLAS061D; PackageVersion: 4040005/B, 03/1995; PackageReference: FN20; PackageDescription: 20-Pin Plastic Chip Carrier, Body 8.965 x 8.965 mm, Pitch 1.27 mm; Supplier 1: Digi-Key; Supplier Part Number 1: TLC7524IFNG3-ND; Supplier 2: Mouser; Supplier Part Number 2: 595-TLC7524IFNG3; Eco-Plan: Green (RoHS & no Sb/Br); INL(Max)(+/-LSB): 0.5; Interface: Parallel; Mounting Technology: Surface Mount; Code_JEDEC: MS-018; ComponentLink1Description: Manufacturer URL; ComponentLink1URL: http://www.ti.com/; ComponentLink2Description: Datasheet; ComponentLink2URL: http://www.ti.com/general/docs/lit/getliterature.tsp?genericPartNumber=TLC7524&fileType=pdf; ComponentLink3Description: Package Specification; ComponentLink3URL: http://www.ti.com/litv/pdf/mplc004a
footprint TI-FN20_N (PLCC, 20-Leads, Body 8.965x8.965mm, Pitch 1.27mm, IPC Medium Density)
footprint TI-FN20_L (PLCC, 20-Leads, Body 8.965x8.965mm, Pitch 1.27mm, IPC High Density)
footprint TI-FN20_M (PLCC, 20-Leads, Body 8.965x8.965mm, Pitch 1.27mm, IPC Low Density)
pins: 1 NC, 2 OUT1 (out), 3 OUT2 (out), 4 GND (power), 5 DB7 (MSB) (in), 6 NC, 7 DB6 (in), 8 DB5 (in), 9 DB4 (in), 10 DB3 (in), 11 NC, 12 DB2 (in), 13 DB1 (in), 14 DB0 (LSB) (in), 15 ~{CS} (in), 16 NC, 17 ~{WR} (in), 18 VDD (power), 19 REF (in), 20 RFB (in)

## TLC7524IN
designator U?
8-Bit, 0.1 us MDAC, Parallel Input, Fast Control Signalling for DSP, Easy Micro Interface, -25 to 85 degC, 16-pin DIP (N16), Pb-Free (RoHS); Manufacturer: Texas Instruments; PartNumber: TLC7524IN; DAC Channels: 1; DNL(Max)(+/-LSB): 0.5; Resolution(Bits): 8; Settling Time(us): 0.1; SubFamily: Precision DAC (=<10MSPS); DatasheetVersion: SLAS061D; PackageVersion: 4040049/E, 12/2002; PackageReference: N16; PackageDescription: 16-Pin Plastic In-Line, Body 19.305 x 6.35 mm, Pitch 2.54 mm; Supplier 1: Digi-Key; Supplier Part Number 1: 296-3023-5-ND; Supplier 2: Farnell; Supplier Part Number 2: 8454639; Supplier 3: Newark; Supplier Part Number 3: 38K8384; Supplier 4: Newark; Supplier Part Number 4: 08F9151; Supplier 5: Mouser; Supplier Part Number 5: 595-TLC7524IN; Eco-Plan: Pb-Free (RoHS); INL(Max)(+/-LSB): 0.5; Interface: Parallel; Mounting Technology: Through Hole; Code_JEDEC: MS-001; ComponentLink1Description: Manufacturer URL; ComponentLink1URL: http://www.ti.com/; ComponentLink2Description: Datasheet; ComponentLink2URL: http://www.ti.com/general/docs/lit/getliterature.tsp?genericPartNumber=TLC7524&fileType=pdf; ComponentLink3Description: Package Specification; ComponentLink3URL: http://www.ti.com/litv/pdf/mpdi002c
footprint TI-N16 (DIP, 16-Leads, Body 19.305x6.35mm, Pitch 2.54mm)
pins: 1 OUT1 (out), 2 OUT2 (out), 3 GND (power), 4 DB7 (MSB) (in), 5 DB6 (in), 6 DB5 (in), 7 DB4 (in), 8 DB3 (in), 9 DB2 (in), 10 DB1 (in), 11 DB0 (LSB) (in), 12 ~{CS} (in), 13 ~{WR} (in), 14 VDD (power), 15 REF (in), 16 RFB (in)

## TLC7524INE4
designator U?
8-Bit, 0.1 us MDAC, Parallel Input, Fast Control Signalling for DSP, Easy Micro Interface, -25 to 85 degC, 16-pin DIP (N16), Pb-Free (RoHS); Manufacturer: Texas Instruments; PartNumber: TLC7524INE4; DAC Channels: 1; DNL(Max)(+/-LSB): 0.5; Resolution(Bits): 8; Settling Time(us): 0.1; SubFamily: Precision DAC (=<10MSPS); DatasheetVersion: SLAS061D; PackageVersion: 4040049/E, 12/2002; PackageReference: N16; PackageDescription: 16-Pin Plastic In-Line, Body 19.305 x 6.35 mm, Pitch 2.54 mm; Supplier 1: Digi-Key; Supplier Part Number 1: TLC7524INE4-ND; Supplier 2: Newark; Supplier Part Number 2: 24K5351; Supplier 3: Mouser; Supplier Part Number 3: 595-TLC7524INE4; Eco-Plan: Pb-Free (RoHS); INL(Max)(+/-LSB): 0.5; Interface: Parallel; Mounting Technology: Through Hole; Code_JEDEC: MS-001; ComponentLink1Description: Manufacturer URL; ComponentLink1URL: http://www.ti.com/; ComponentLink2Description: Datasheet; ComponentLink2URL: http://www.ti.com/general/docs/lit/getliterature.tsp?genericPartNumber=TLC7524&fileType=pdf; ComponentLink3Description: Package Specification; ComponentLink3URL: http://www.ti.com/litv/pdf/mpdi002c
footprint TI-N16 (DIP, 16-Leads, Body 19.305x6.35mm, Pitch 2.54mm)
pins: 1 OUT1 (out), 2 OUT2 (out), 3 GND (power), 4 DB7 (MSB) (in), 5 DB6 (in), 6 DB5 (in), 7 DB4 (in), 8 DB3 (in), 9 DB2 (in), 10 DB1 (in), 11 DB0 (LSB) (in), 12 ~{CS} (in), 13 ~{WR} (in), 14 VDD (power), 15 REF (in), 16 RFB (in)

## TLC7524IPW
designator U?
8-Bit, 0.1 us MDAC, Parallel Input, Fast Control Signalling for DSP, Easy Micro Interface, -25 to 85 degC, 16-pin SOP (PW16), Green (RoHS & no Sb/Br); Manufacturer: Texas Instruments; PartNumber: TLC7524IPW; DAC Channels: 1; DNL(Max)(+/-LSB): 0.5; Resolution(Bits): 8; Settling Time(us): 0.1; SubFamily: Precision DAC (=<10MSPS); DatasheetVersion: SLAS061D; PackageVersion: 4040064-4/G, 02/2011; PackageReference: PW16; PackageDescription: 16-Pin Plastic Small Outline, Body 5 x 4.4 mm, Pitch 0.65 mm; Supplier 1: Digi-Key; Supplier Part Number 1: 296-34382-5-ND; Supplier 2: Newark; Supplier Part Number 2: 76C7503; Supplier 3: Mouser; Supplier Part Number 3: 595-TLC7524IPW; Eco-Plan: Green (RoHS & no Sb/Br); INL(Max)(+/-LSB): 0.5; Interface: Parallel; Mounting Technology: Surface Mount; Code_JEDEC: MO-153; ComponentLink1Description: Manufacturer URL; ComponentLink1URL: http://www.ti.com/; ComponentLink2Description: Datasheet; ComponentLink2URL: http://www.ti.com/general/docs/lit/getliterature.tsp?genericPartNumber=TLC7524&fileType=pdf; ComponentLink3Description: Package Specification; ComponentLink3URL: http://www.ti.com/lit/ml/mpds361/mpds361.pdf
footprint TI-PW16_N (SOP, 16-Leads, Body 5x4.4mm, Pitch 0.65mm, IPC Medium Density)
footprint TI-PW16_L (SOP, 16-Leads, Body 5x4.4mm, Pitch 0.65mm, IPC High Density)
footprint TI-PW16_M (SOP, 16-Leads, Body 5x4.4mm, Pitch 0.65mm, IPC Low Density)
pins: 1 OUT1 (out), 2 OUT2 (out), 3 GND (power), 4 DB7 (MSB) (in), 5 DB6 (in), 6 DB5 (in), 7 DB4 (in), 8 DB3 (in), 9 DB2 (in), 10 DB1 (in), 11 DB0 (LSB) (in), 12 ~{CS} (in), 13 ~{WR} (in), 14 VDD (power), 15 REF (in), 16 RFB (in)